# Altium footprint library ESP.PcbLib: 1 footprints
Each footprint in its own frame and in the unit in brackets; x right, y up, seen from the top. Pads: shape width x height; smd on the part's side, far side on the other; paste and mask are expansions set on the pad; w line width, h text height; cw(c..) or ccw(c..) is an arc to the next point about the centre after c.
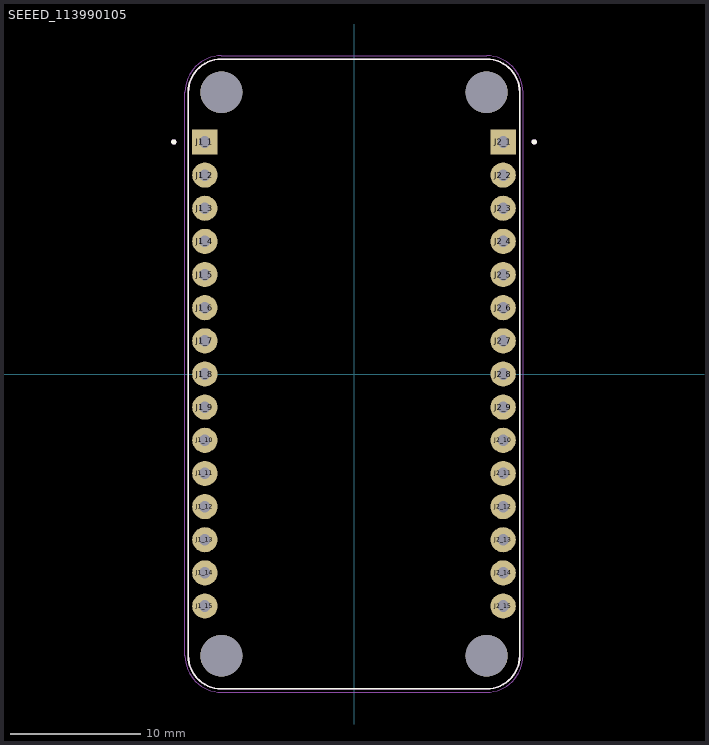
[diagram p0: the footprint, top view; thin cyan lines are the x and y axes]

## SEEED_113990105 [mm]
pads (34):
  rect 1.93x1.93 / inner round 1.93 / far side rect 1.93x1.93 hole 0.889: J1_1(-11.43,17.78) J2_1(11.43,17.78)
  round 1.93 hole 0.889: J1_2(-11.43,15.24) J1_3(-11.43,12.7) J1_4(-11.43,10.16) J1_5(-11.43,7.62) J1_6(-11.43,5.08) J1_7(-11.43,2.54) J1_8(-11.43,0) J1_9(-11.43,-2.54) J1_10(-11.43,-5.08) J1_11(-11.43,-7.62) J1_12(-11.43,-10.16) J1_13(-11.43,-12.7) J1_14(-11.43,-15.24) J1_15(-11.43,-17.78) J2_2(11.43,15.24) J2_3(11.43,12.7) J2_4(11.43,10.16) J2_5(11.43,7.62) J2_6(11.43,5.08) J2_7(11.43,2.54) J2_8(11.43,0) J2_9(11.43,-2.54) J2_10(11.43,-5.08) J2_11(11.43,-7.62) J2_12(11.43,-10.16) J2_13(11.43,-12.7) J2_14(11.43,-15.24) J2_15(11.43,-17.78)
  round 3.2 hole 3.2 unplated: ""(-10.16,-21.59) ""(-10.16,21.59) ""(10.16,-21.59) ""(10.16,21.59)
Top Overlay:
  circle w0.2: c13.81,17.78 r0.1
  circle w0.2: c-13.81,17.78 r0.1
  lines w0.127: -12.7,-21.59 ccw(c-10.16,-21.59) -10.16,-24.13 10.16,-24.13 ccw(c10.16,-21.59) 12.7,-21.59 12.7,21.59 ccw(c10.16,21.59) 10.16,24.13 -10.16,24.13 ccw(c-10.16,21.59) -12.7,21.59 -12.7,-21.59
Mechanical 13:
  circle w0.2: c13.81,17.78 r0.1
  circle w0.2: c-13.81,17.78 r0.1
  lines w0.127: -12.7,-21.59 ccw(c-10.16,-21.59) -10.16,-24.13 10.16,-24.13 ccw(c10.16,-21.59) 12.7,-21.59 12.7,21.59 ccw(c10.16,21.59) 10.16,24.13 -10.16,24.13 ccw(c-10.16,21.59) -12.7,21.59 -12.7,-21.59
Mechanical 15:
  lines w0.05: -12.95,-21.59 ccw(c-10.16,-21.59) -10.16,-24.38 10.16,-24.38 ccw(c10.16,-21.59) 12.95,-21.59 12.95,21.59 ccw(c10.16,21.59) 10.16,24.38 -10.16,24.38 ccw(c-10.16,21.59) -12.95,21.59 -12.95,-21.59
3D body "NODEMCU_DEVKIT_V1_0.STEP": height 7.08, standoff -5.11, extent -12.699,-24.624 13.081,24.37